# Altium footprint library VCNL4200.PcbLib: 1 footprints
Each footprint in its own frame and in the unit in brackets; x right, y up, seen from the top. Pads: shape width x height; smd on the part's side, far side on the other; paste and mask are expansions set on the pad; w line width, h text height; cw(c..) or ccw(c..) is an arc to the next point about the centre after c.
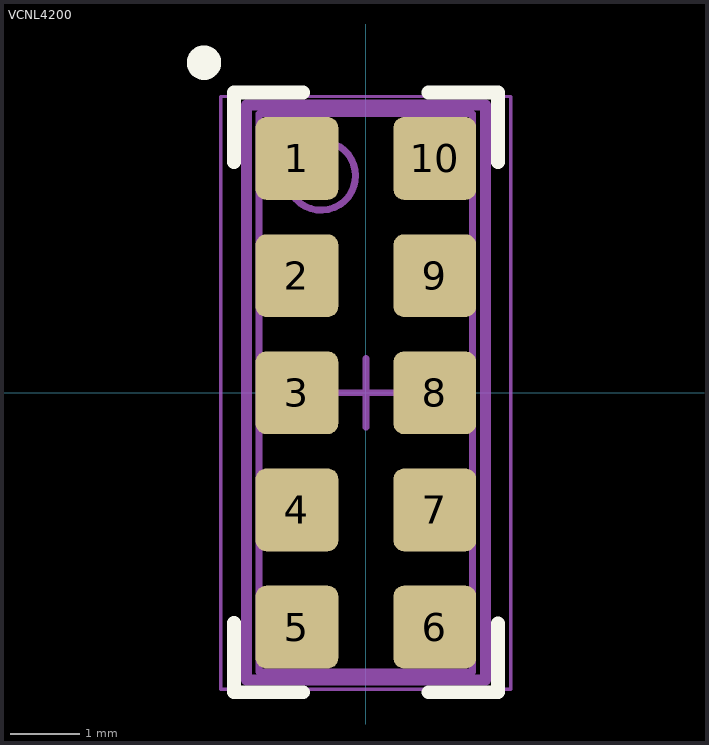
[diagram p0: the footprint, top view; thin cyan lines are the x and y axes]

## VCNL4200 [mm] "LGA, 10-Leads, Body 8.00x3.00mm, Pitch 1.70mm, IPC Medium Density"
height 1.8
pads (10):
  rrect25% 1.2x1.2 smd mask+0.05: 1(-1,3.4) 2(-1,1.7) 3(-1,0) 4(-1,-1.7) 5(-1,-3.4) 6(1,-3.4) 7(1,-1.7) 8(1,0) 9(1,1.7) 10(1,3.4)
Top Overlay:
  circle w0.3: c-2.35,4.79 r0.1
  lines w0.2: -1.913,-3.34 -1.913,-4.345 -0.91,-4.345 ; -1.913,3.35 -1.913,4.357 -0.91,4.357 ; 0.91,-4.345 1.917,-4.345 1.917,-3.345 ; 0.91,4.357 1.917,4.357 1.917,3.35
Mechanical 13:
  circle w0.1: c-0.65,3.15 r0.5
  lines w0.1: -1.55,-4.05 1.55,-4.05 1.55,4.05 -1.55,4.05 -1.55,-4.05
  lines w0.16: -1.734,-4.167 1.736,-4.167 1.736,4.175 -1.734,4.175 -1.734,-4.167
Mechanical 15:
  lines w0.05: -2.105,-4.3 2.105,-4.3 2.105,4.3 -2.105,4.3 -2.105,-4.3
  lines w0.1: -0.5,0 0.5,0 ; 0,-0.5 0,0.5
3D body "84588VCNL4200.stp": height 1.8, standoff 0, extent -1.5,-3.99 1.5,4.01